# Altium schematic symbol library nnts.SchLib: 62 symbols (part 2 of 3)
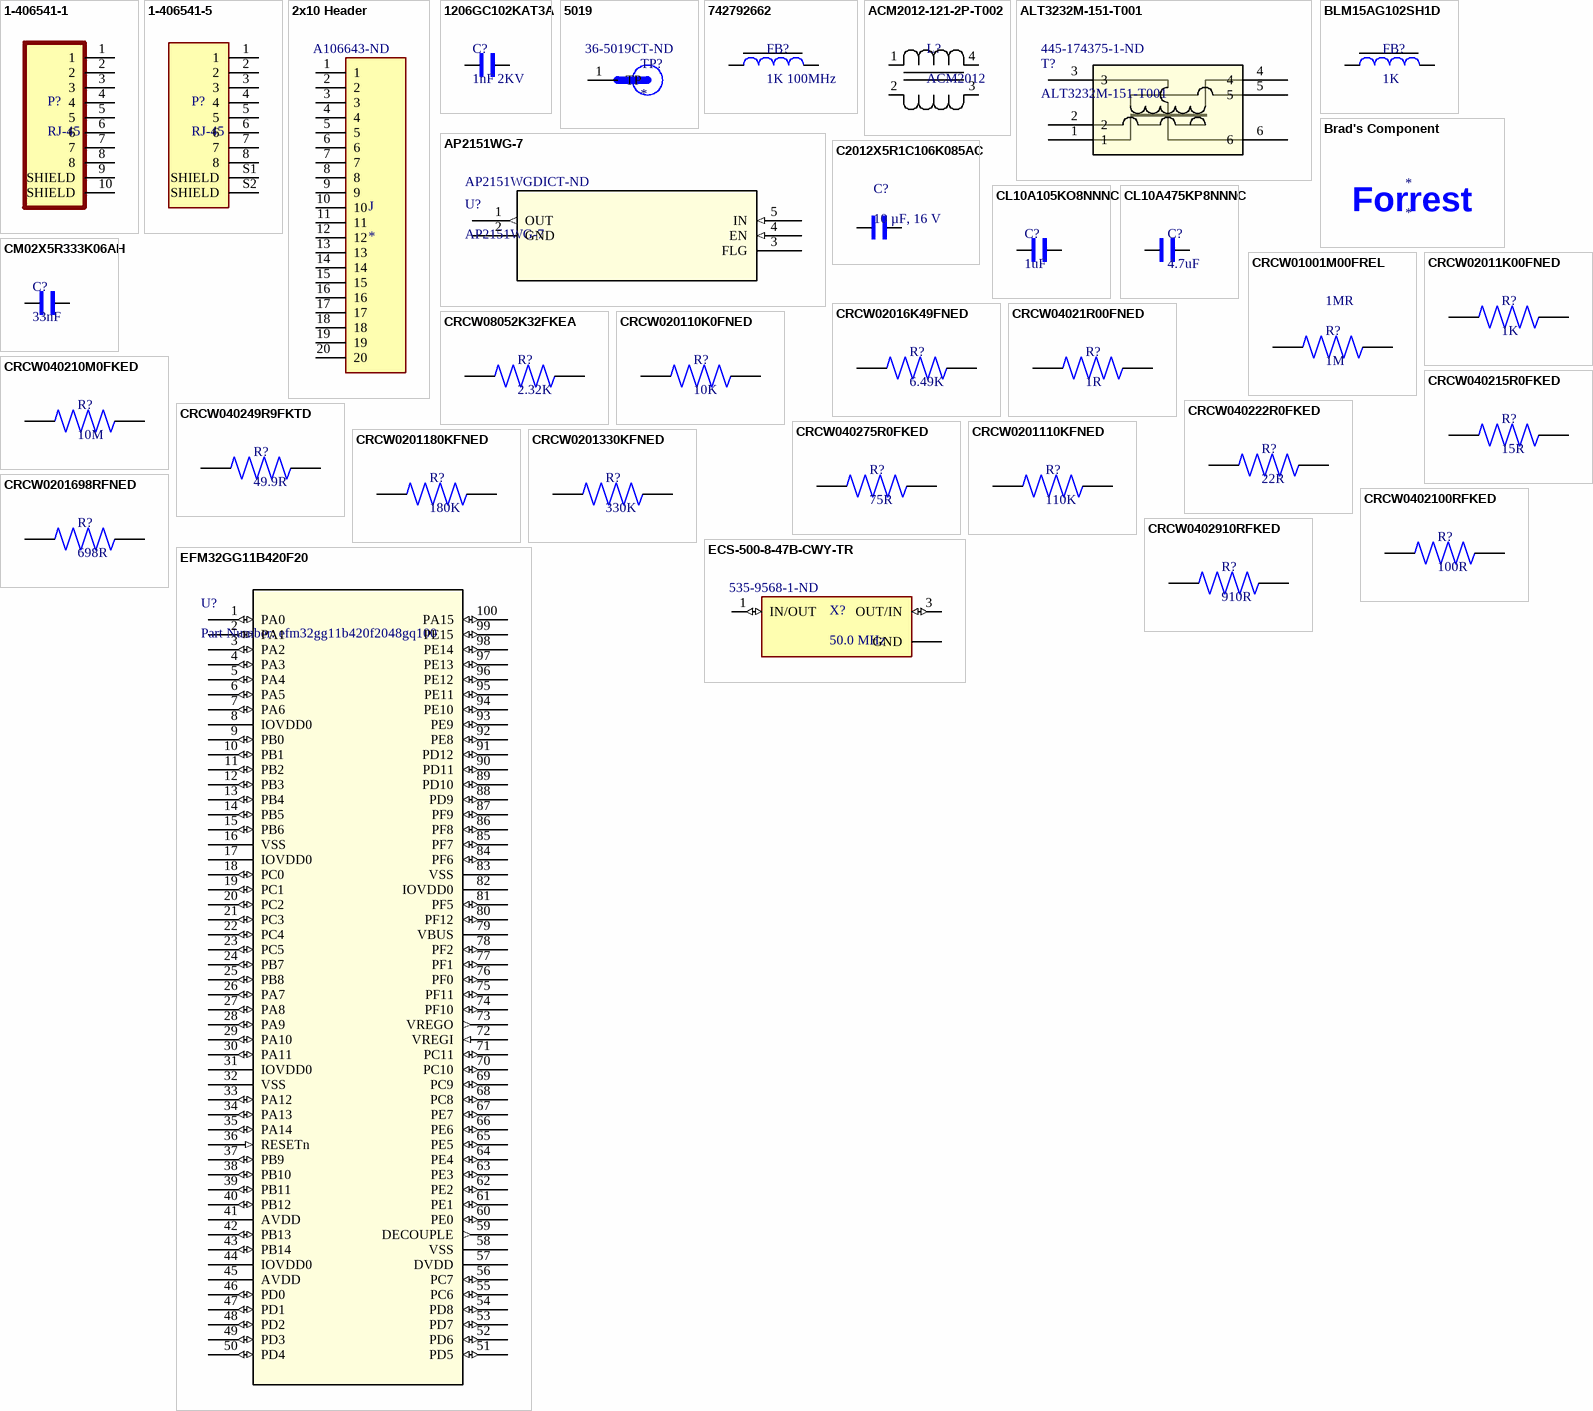
[diagram p3: symbols 1-406541-1 to EFM32GG11B420F20]

## CRCW040275R0FKED
designator R?, comment 75R
VISHAY         CRCW040275R0FKED.            Surface Mount Chip Resistor, Thick Film, AEC-Q200 CRCW Series, 75 ohm, 63 mW,  1%, 50 V; Power Rating: 63mW; Temperature Coefficient: 100ppm/°C; Voltage Rating: 50V; Supplier 1: Digi-Key; Manufacturer: Vishay; Manufacturer Part Number: CRCW040275R0FKED; RoHS: Yes; Category: Chip SMD Resistors; Stock 1: 3085; Pricing 1: 1=0.10000, 10=0.03300, 100=0.01330, 1000=0.00596, 2500=0.00518, 5000=0.00428 (USD); Case/Package: 0402; Contact Plating: Tin; Weight: 2.3E-05oz; Case Code (Imperial): 0402; Case Code (Metric): 1005; Min Operating Temperature: -55°C; Max Operating Temperature: 155°C; Resistance: 75R; Tolerance: 1%; Resistor Type: Thick Film; Termination: SMD/SMT; Packaging: Tape and Reel; Package Quantity: 10; Number of Terminations: 2; Max Power Dissipation: 63mW; Voltage Rating (DC): 50V; Working Voltage: 50V; Features: Automotive AEC-Q200; Length: 1mm; Width: 0.5mm; Height: 0.35mm; Depth: 0.5mm; Radiation Hardening: No; Lead Free: Lead Free; REACH SVHC: Unknown; Military Standard: Not; ComponentLink1URL: https://datasheet.ciiva.com/11811/0900766b80d98824-11811348.pdf?src-supplier=RSComponents; ComponentLink1Description: https://datasheet.ciiva.com/11811/0900766b80d98824-11811348.pdf?src-supplier=RSComponents; ComponentLink2URL: https://datasheet.ciiva.com/2463/dcrcwe3-2463217.pdf?src-supplier=Digi-Key; ComponentLink2Description: https://datasheet.ciiva.com/2463/dcrcwe3-2463217.pdf?src-supplier=Digi-Key; ComponentLink3URL: https://datasheet.ciiva.com/2463/dcrcwe3-2463218.pdf?src-supplier=Digi-Key; ComponentLink3Description: https://datasheet.ciiva.com/2463/dcrcwe3-2463218.pdf?src-supplier=Digi-Key; ComponentLink4URL: https://datasheet.ciiva.com/2463/dcrcwe3-2463219.pdf?src-supplier=Digi-Key; ComponentLink4Description: https://datasheet.ciiva.com/2463/dcrcwe3-2463219.pdf?src-supplier=Digi-Key; ComponentLink5URL: https://datasheet.ciiva.com/16779/70201119-16779527.pdf?src-supplier=Allied+Electronics; ComponentLink5Description: https://datasheet.ciiva.com/16779/70201119-16779527.pdf?src-supplier=Allied+Electronics; ComponentLink6URL: https://datasheet.ciiva.com/16885/dcrcwe3-16885703.pdf?src-supplier=Avnet+Europe; ComponentLink6Description: https://datasheet.ciiva.com/16885/dcrcwe3-16885703.pdf?src-supplier=Avnet+Europe; ComponentLink7URL: https://datasheet.ciiva.com/7673/1697337-7673451.pdf?src-supplier=Element14; ComponentLink7Description: https://datasheet.ciiva.com/7673/1697337-7673451.pdf?src-supplier=Element14; ComponentLink8URL: https://datasheet.ciiva.com/7673/1697337-7673279.pdf?src-supplier=Element14; ComponentLink8Description: https://datasheet.ciiva.com/7673/1697337-7673279.pdf?src-supplier=Element14; Supplier Part Number 1: 541-75.0LCT-ND
footprint R0402 Vishay
pins: 1, 2

## CRCW0201110KFNED
designator R?, comment 110K
RES SMD 110K OHM 1% 1/20W 0201; Manufacturer: Vishay; Manufacturer Part Number: CRCW0201110KFNED; Resistance: 110kR; Power Rating: 50mW; Voltage Rating: 30V; Temperature Coefficient: 200ppm/°C; Supplier 1: Digi-Key; RoHS: Yes; Category: Chip SMD Resistors; Stock 1: 6456; Pricing 1: 1=0.10000, 10=0.05700, 100=0.02300, 1000=0.01034, 2500=0.00897, 5000=0.00741 (USD); Case/Package: 0201; Case Code (Metric): 0603; Case Code (Imperial): 0201; Contact Plating: Tin; Min Operating Temperature: -55°C; Max Operating Temperature: 155°C; Package Quantity: 10000; Tolerance: 1%; Packaging: Tape and Reel; Resistor Type: Thick Film; Number of Terminations: 2; Max Power Dissipation: 50mW; Voltage Rating (DC): 30V; Length: 0.024inch; Width: 0.012inch; Height: 0.011inch; Radiation Hardening: No; REACH SVHC: Unknown; Lead Free: Lead Free; ComponentLink1URL: https://datasheet.ciiva.com/8977/crcw0201e3-8977608.pdf?src-supplier=Avnet; ComponentLink1Description: https://datasheet.ciiva.com/8977/crcw0201e3-8977608.pdf?src-supplier=Avnet; ComponentLink2URL: https://datasheet.ciiva.com/22692/1719906-22692712.pdf?src-supplier=Element14; ComponentLink2Description: https://datasheet.ciiva.com/22692/1719906-22692712.pdf?src-supplier=Element14; ComponentLink3URL: https://datasheet.ciiva.com/2577/crcw0201e3-2577313.pdf?src-supplier=Digi-Key; ComponentLink3Description: https://datasheet.ciiva.com/2577/crcw0201e3-2577313.pdf?src-supplier=Digi-Key; ComponentLink4URL: https://datasheet.ciiva.com/22665/1700795-22665706.pdf?src-supplier=Element14; ComponentLink4Description: https://datasheet.ciiva.com/22665/1700795-22665706.pdf?src-supplier=Element14; Supplier Part Number 1: 541-CRCW0201110KFNEDCT-ND
footprint R0603 Vishay
pins: 1, 2

## CRCW0201180KFNED
designator R?, comment 180K
VISHAY - CRCW0201180KFNED - SMD Chip Resistor, 0201 [0603 Metric], 180 kohm, CRCW e3 Series, 30 V, Thick Film, 50 mW; Resistance: 180kR; Power Rating: 50mW; Tolerance: 1%; Voltage Rating: 30V; Temperature Coefficient: 200ppm/°C; Supplier 1: Digi-Key; Manufacturer: Vishay; Manufacturer Part Number: CRCW0201180KFNED; RoHS: Yes; Category: Chip SMD Resistors; Stock 1: 10120; Pricing 1: 1=0.10000, 10=0.05700, 100=0.02300, 1000=0.01034, 2500=0.00897, 5000=0.00741 (USD); Case/Package: 0201; Case Code (Metric): 0603; Case Code (Imperial): 0201; Contact Plating: Tin; Min Operating Temperature: -55°C; Max Operating Temperature: 155°C; Packaging: Tape and Reel; Resistor Type: Thick Film; Voltage Rating (DC): 30V; Length: 600um; Width: 300um; Height: 230um; Radiation Hardening: No; REACH SVHC: Unknown; Lead Free: Lead Free; ComponentLink1URL: https://datasheet.ciiva.com/22665/1700795-22665798.pdf?src-supplier=Element14; ComponentLink1Description: https://datasheet.ciiva.com/22665/1700795-22665798.pdf?src-supplier=Element14; ComponentLink2URL: https://datasheet.ciiva.com/22692/1719906-22692745.pdf?src-supplier=Element14; ComponentLink2Description: https://datasheet.ciiva.com/22692/1719906-22692745.pdf?src-supplier=Element14; ComponentLink3URL: https://datasheet.ciiva.com/7714/1719906-7714127.pdf?src-supplier=Element14; ComponentLink3Description: https://datasheet.ciiva.com/7714/1719906-7714127.pdf?src-supplier=Element14; Supplier Part Number 1: 541-CRCW0201180KFNEDCT-ND
footprint R0603 Vishay
pins: 1, 2

## CRCW0201330KFNED
designator R?, comment 330K
VISHAY   CRCW0201330KFNED   Surface Mount Chip Resistor, Thick Film, AEC-Q200 CRCW Series, 330 kohm, 50 mW,  1%, 30 V; Resistance: 330kR; Power Rating: 50mW; Voltage Rating: 30V; Temperature Coefficient: 200ppm/°C; Supplier 1: Digi-Key; Manufacturer: Vishay; Manufacturer Part Number: CRCW0201330KFNED; RoHS: Yes; Category: Chip SMD Resistors; Stock 1: 7255; Pricing 1: 1=0.10000, 10=0.05700, 100=0.02300, 1000=0.01034, 2500=0.00897, 5000=0.00741 (USD); Case/Package: 0201; Case Code (Metric): 0603; Case Code (Imperial): 0201; Contact Plating: Tin; Min Operating Temperature: -55°C; Max Operating Temperature: 155°C; Packaging: Tape and Reel; Tolerance: 1%; Package Quantity: 10000; Resistor Type: Thick Film; Number of Terminations: 2; Max Power Dissipation: 50mW; Voltage Rating (DC): 30V; Length: 0.024inch; Width: 0.012inch; Height: 0.011inch; Radiation Hardening: No; REACH SVHC: Unknown; Lead Free: Lead Free; ComponentLink1URL: https://datasheet.ciiva.com/22708/1719906-22708398.pdf?src-supplier=Element14; ComponentLink1Description: https://datasheet.ciiva.com/22708/1719906-22708398.pdf?src-supplier=Element14; Supplier Part Number 1: 541-CRCW0201330KFNEDCT-ND
footprint R0603 Vishay
pins: 1, 2

## CRCW0201698RFNED
designator R?, comment 698R
RES SMD 698 OHM 1% 1/20W 0201; Manufacturer: Vishay; Manufacturer Part Number: CRCW0201698RFNED; Power Rating: 50mW; Voltage Rating: 30V; Temperature Coefficient: 200ppm/°C; Supplier 1: Digi-Key; RoHS: Yes; Category: Chip SMD Resistors; Stock 1: 10000; Pricing 1: 1=0.10000, 10=0.05700, 100=0.02300, 1000=0.01034, 2500=0.00897, 5000=0.00741 (USD); Case/Package: 0201; Case Code (Metric): 0603; Case Code (Imperial): 0201; Contact Plating: Tin; Min Operating Temperature: -55°C; Max Operating Temperature: 155°C; Packaging: Tape and Reel; Resistance: 698R; Tolerance: 1%; Package Quantity: 10000; Resistor Type: Thick Film; Number of Terminations: 2; Max Power Dissipation: 50mW; Voltage Rating (DC): 30V; Length: 0.024inch; Width: 0.012inch; Height: 0.011inch; Radiation Hardening: No; REACH SVHC: Unknown; Lead Free: Lead Free; ComponentLink1URL: https://datasheet.ciiva.com/2577/crcw0201e3-2577171.pdf?src-supplier=Digi-Key; ComponentLink1Description: https://datasheet.ciiva.com/2577/crcw0201e3-2577171.pdf?src-supplier=Digi-Key; ComponentLink2URL: https://datasheet.ciiva.com/8922/crcw0201e3-8922646.pdf?src-supplier=Avnet; ComponentLink2Description: https://datasheet.ciiva.com/8922/crcw0201e3-8922646.pdf?src-supplier=Avnet; ComponentLink3URL: https://datasheet.ciiva.com/7672/1719906-7672440.pdf?src-supplier=Element14; ComponentLink3Description: https://datasheet.ciiva.com/7672/1719906-7672440.pdf?src-supplier=Element14; ComponentLink4URL: https://datasheet.ciiva.com/7672/1719906-7672441.pdf?src-supplier=Element14; ComponentLink4Description: https://datasheet.ciiva.com/7672/1719906-7672441.pdf?src-supplier=Element14; ComponentLink5URL: https://datasheet.ciiva.com/22674/1700795-22674828.pdf?src-supplier=Element14; ComponentLink5Description: https://datasheet.ciiva.com/22674/1700795-22674828.pdf?src-supplier=Element14; Supplier Part Number 1: 541-CRCW0201698RFNEDCT-ND
footprint R0603 Vishay
pins: 1, 2

## CRCW0402100RFKED
designator R?, comment 100R
RES SMD 100 OHM 1% 1/16W 0402; Manufacturer: Vishay Dale; Manufacturer Part Number: CRCW0402100RFKED; Power Rating: 63mW; Temperature Coefficient: 100ppm/°C; Voltage Rating: 50V; Supplier 1: Digi-Key; RoHS: Yes; Category: Chip SMD Resistors; Stock 1: 292788; Pricing 1: 1=0.10000, 10=0.03300, 100=0.01330, 1000=0.00596, 2500=0.00518, 5000=0.00428 (USD); Mount: Surface Mount; Case/Package: 0402; Contact Plating: Tin; Weight: 2.3E-05oz; Case Code (Metric): 1005; Case Code (Imperial): 0402; Min Operating Temperature: -55°C; Max Operating Temperature: 155°C; Resistance: 100R; Tolerance: 1%; Resistor Type: Thick Film; Termination: SMD/SMT; Packaging: Tape and Reel; Package Quantity: 10; Number of Terminations: 2; Max Power Dissipation: 63mW; Voltage Rating (DC): 50V; Working Voltage: 50V; Features: Automotive AEC-Q200; Length: 1mm; Width: 0.02inch; Height: 0.35mm; Depth: 0.5mm; Radiation Hardening: No; Lead Free: Lead Free; REACH SVHC: Unknown; Military Standard: Not; ComponentLink1URL: https://datasheet.ciiva.com/11809/0900766b80d98824-11809081.pdf?src-supplier=RSComponents; ComponentLink1Description: https://datasheet.ciiva.com/11809/0900766b80d98824-11809081.pdf?src-supplier=RSComponents; ComponentLink2URL: https://datasheet.ciiva.com/2463/dcrcwe3-2463094.pdf?src-supplier=Digi-Key; ComponentLink2Description: https://datasheet.ciiva.com/2463/dcrcwe3-2463094.pdf?src-supplier=Digi-Key; ComponentLink3URL: https://datasheet.ciiva.com/16199/dcrcwe3-16199158.pdf?src-supplier=Future+Electronics; ComponentLink3Description: https://datasheet.ciiva.com/16199/dcrcwe3-16199158.pdf?src-supplier=Future+Electronics; ComponentLink4URL: https://datasheet.ciiva.com/2463/dcrcwe3-2463095.pdf?src-supplier=Digi-Key; ComponentLink4Description: https://datasheet.ciiva.com/2463/dcrcwe3-2463095.pdf?src-supplier=Digi-Key; ComponentLink5URL: https://datasheet.ciiva.com/2463/dcrcwe3-2463096.pdf?src-supplier=Digi-Key; ComponentLink5Description: https://datasheet.ciiva.com/2463/dcrcwe3-2463096.pdf?src-supplier=Digi-Key; ComponentLink6URL: https://datasheet.ciiva.com/5552/dcrcwe3-109170-5552168.pdf?src-supplier=Mouser; ComponentLink6Description: https://datasheet.ciiva.com/5552/dcrcwe3-109170-5552168.pdf?src-supplier=Mouser; ComponentLink7URL: https://datasheet.ciiva.com/8083/dcrcwe3-8083977.pdf?src-supplier=Avnet; ComponentLink7Description: https://datasheet.ciiva.com/8083/dcrcwe3-8083977.pdf?src-supplier=Avnet; ComponentLink8URL: https://datasheet.ciiva.com/16722/70201119-16722524.pdf?src-supplier=Allied+Electronics; ComponentLink8Description: https://datasheet.ciiva.com/16722/70201119-16722524.pdf?src-supplier=Allied+Electronics; ComponentLink9URL: https://datasheet.ciiva.com/22673/1697337-22673118.pdf?src-supplier=Element14; ComponentLink9Description: https://datasheet.ciiva.com/22673/1697337-22673118.pdf?src-supplier=Element14; ComponentLink10URL: https://datasheet.ciiva.com/22673/1697337-22673117.pdf?src-supplier=Element14; ComponentLink10Description: https://datasheet.ciiva.com/22673/1697337-22673117.pdf?src-supplier=Element14; ComponentLink11URL: https://datasheet.ciiva.com/3255/dcrcwe3-3255951.pdf?src-supplier=Avnet; ComponentLink11Description: https://datasheet.ciiva.com/3255/dcrcwe3-3255951.pdf?src-supplier=Avnet; Supplier Part Number 1: 541-100LCT-ND
footprint R0402 Vishay
pins: 1, 2

## CRCW0402910RFKED
designator R?, comment 910R
Res Thick Film 0402 910 Ohm 1% 0.063W(1/16W) ±100ppm/C Pad SMD Automotive T/R; Manufacturer: Vishay; Manufacturer Part Number: CRCW0402910RFKED; Temperature Coefficient: 100ppm/°C; Power Rating: 63mW; Voltage Rating: 50V; Supplier 1: Digi-Key; RoHS: Yes; Category: Chip SMD Resistors; Stock 1: 32719; Pricing 1: 1=0.10000, 10=0.03300, 100=0.01330, 1000=0.00596, 2500=0.00518, 5000=0.00428 (USD); Case/Package: 0402; Contact Plating: Tin; Weight: 2.3E-05oz; Case Code (Imperial): 0402; Case Code (Metric): 1005; Min Operating Temperature: -55°C; Max Operating Temperature: 155°C; Resistance: 910R; Tolerance: 1%; Resistor Type: Thick Film; Packaging: Tape and Reel; Package Quantity: 10; Termination: SMD/SMT; Number of Terminations: 2; Max Power Dissipation: 63mW; Features: Automotive AEC-Q200; Voltage Rating (DC): 50V; Length: 1mm; Width: 0.5mm; Height: 0.35mm; Depth: 0.5mm; Radiation Hardening: No; Lead Free: Lead Free; REACH SVHC: Unknown; Military Standard: Not; ComponentLink1URL: https://datasheet.ciiva.com/11818/0900766b80d98824-11818156.pdf?src-supplier=RSComponents; ComponentLink1Description: https://datasheet.ciiva.com/11818/0900766b80d98824-11818156.pdf?src-supplier=RSComponents; ComponentLink2URL: https://datasheet.ciiva.com/5545/dcrcwe3-109170-5545657.pdf?src-supplier=Mouser; ComponentLink2Description: https://datasheet.ciiva.com/5545/dcrcwe3-109170-5545657.pdf?src-supplier=Mouser; ComponentLink3URL: https://datasheet.ciiva.com/22674/1847332-22674841.pdf?src-supplier=Element14; ComponentLink3Description: https://datasheet.ciiva.com/22674/1847332-22674841.pdf?src-supplier=Element14; ComponentLink4URL: https://datasheet.ciiva.com/2463/dcrcwe3-2463999.pdf?src-supplier=Digi-Key; ComponentLink4Description: https://datasheet.ciiva.com/2463/dcrcwe3-2463999.pdf?src-supplier=Digi-Key; ComponentLink5URL: https://datasheet.ciiva.com/7672/1697337-7672517.pdf?src-supplier=Element14; ComponentLink5Description: https://datasheet.ciiva.com/7672/1697337-7672517.pdf?src-supplier=Element14; ComponentLink6URL: https://datasheet.ciiva.com/16778/70201119-16778533.pdf?src-supplier=Allied+Electronics; ComponentLink6Description: https://datasheet.ciiva.com/16778/70201119-16778533.pdf?src-supplier=Allied+Electronics; ComponentLink7URL: https://datasheet.ciiva.com/16426/dcrcwe3-16426299.pdf?src-supplier=Future+Electronics; ComponentLink7Description: https://datasheet.ciiva.com/16426/dcrcwe3-16426299.pdf?src-supplier=Future+Electronics; ComponentLink8URL: https://datasheet.ciiva.com/22706/1697337-22706347.pdf?src-supplier=Element14; ComponentLink8Description: https://datasheet.ciiva.com/22706/1697337-22706347.pdf?src-supplier=Element14; ComponentLink9URL: https://datasheet.ciiva.com/2463/dcrcwe3-2463997.pdf?src-supplier=Digi-Key; ComponentLink9Description: https://datasheet.ciiva.com/2463/dcrcwe3-2463997.pdf?src-supplier=Digi-Key; ComponentLink10URL: https://datasheet.ciiva.com/2463/dcrcwe3-2463998.pdf?src-supplier=Digi-Key; ComponentLink10Description: https://datasheet.ciiva.com/2463/dcrcwe3-2463998.pdf?src-supplier=Digi-Key; ComponentLink11URL: https://datasheet.ciiva.com/7672/1697337-7672518.pdf?src-supplier=Element14; ComponentLink11Description: https://datasheet.ciiva.com/7672/1697337-7672518.pdf?src-supplier=Element14; Supplier Part Number 1: 541-910LCT-ND
footprint R0402 Vishay
pins: 1, 2

## ECS-500-8-47B-CWY-TR
designator X?, comment 50.0 MHz  Supplier Part Number 1: 535-9568-1-ND
CRYSTAL 50.0000MHZ 8PF SMD; MF: ECS Inc.; MP: ECS-500-8-47B-CWY-TR; Price: None; Check_prices: https://www.snapeda.com/parts/ECS-500-8-47B-CWY-TR/ECS%20Inc./view-part/5049033/?ref=eda; SnapEDA_Link: https://www.snapeda.com/parts/ECS-500-8-47B-CWY-TR/ECS%20Inc./view-part/5049033/?ref=snap; Package: None; Purchase-URL: https://pricing.snapeda.com/search/part/ECS-500-8-47B-CWY-TR/?ref=eda; Availability: Warning; Value: *; Supplier 1: Digi-Key
footprint XTAL_ECS-500-8-47B-CWY-TR
pins: 1 IN/OUT (io), 2 GND (power), 3 OUT/IN (io), 4 GND (power)

## EFM32GG11B420F20
designator U?, comment Part Number: efm32gg11b420f2048gq100
No Description Available; Vendor: Silicon Labs; Built_By: EMA_Jessica; Manufacturer_Part_Number: efm32gg11b420f2048gq100; Copyright: Copyright (C) 2018 Accelerated Designs. All rights reserved; RefDes: RefDes; Type: DEV; Value: Value
footprint TQFP100-14X14-0p
pins: 1 PA0 (io), 2 PA1 (io), 3 PA2 (io), 4 PA3 (io), 5 PA4 (io), 6 PA5 (io), 7 PA6 (io), 8 IOVDD0 (power), 9 PB0 (io), 10 PB1 (io), 11 PB2 (io), 12 PB3 (io), 13 PB4 (io), 14 PB5 (io), 15 PB6 (io), 16 VSS (power), 17 IOVDD0 (power), 18 PC0 (io), 19 PC1 (io), 20 PC2 (io), 21 PC3 (io), 22 PC4 (io), 23 PC5 (io), 24 PB7 (io), 25 PB8 (io), 26 PA7 (io), 27 PA8 (io), 28 PA9 (io), 29 PA10 (io), 30 PA11 (io), 31 IOVDD0 (power), 32 VSS (power), 33 PA12 (io), 34 PA13 (io), 35 PA14 (io), 36 RESETn (in), 37 PB9 (io), 38 PB10 (io), 39 PB11 (io), 40 PB12 (io), 41 AVDD (power), 42 PB13 (io), 43 PB14 (io), 44 IOVDD0 (power), 45 AVDD (power), 46 PD0 (io), 47 PD1 (io), 48 PD2 (io), 49 PD3 (io), 50 PD4 (io), 51 PD5 (io), 52 PD6 (io), 53 PD7 (io), 54 PD8 (io), 55 PC6 (io), 56 PC7 (io), 57 DVDD (power), 58 VSS (power), 59 DECOUPLE (out), 60 PE0 (io), 61 PE1 (io), 62 PE2 (io), 63 PE3 (io), 64 PE4 (io), 65 PE5 (io), 66 PE6 (io), 67 PE7 (io), 68 PC8 (io), 69 PC9 (io), 70 PC10 (io), 71 PC11 (io), 72 VREGI (in), 73 VREGO (out), 74 PF10 (io), 75 PF11 (io), 76 PF0 (io), 77 PF1 (io), 78 PF2 (io), 79 VBUS (power), 80 PF12 (io), 81 PF5 (io), 82 IOVDD0 (power), 83 VSS (power), 84 PF6 (io), 85 PF7 (io), 86 PF8 (io), 87 PF9 (io), 88 PD9 (io), 89 PD10 (io), 90 PD11 (io), 91 PD12 (io), 92 PE8 (io), 93 PE9 (io), 94 PE10 (io), 95 PE11 (io), 96 PE12 (io), 97 PE13 (io), 98 PE14 (io), 99 PE15 (io), 100 PA15 (io)

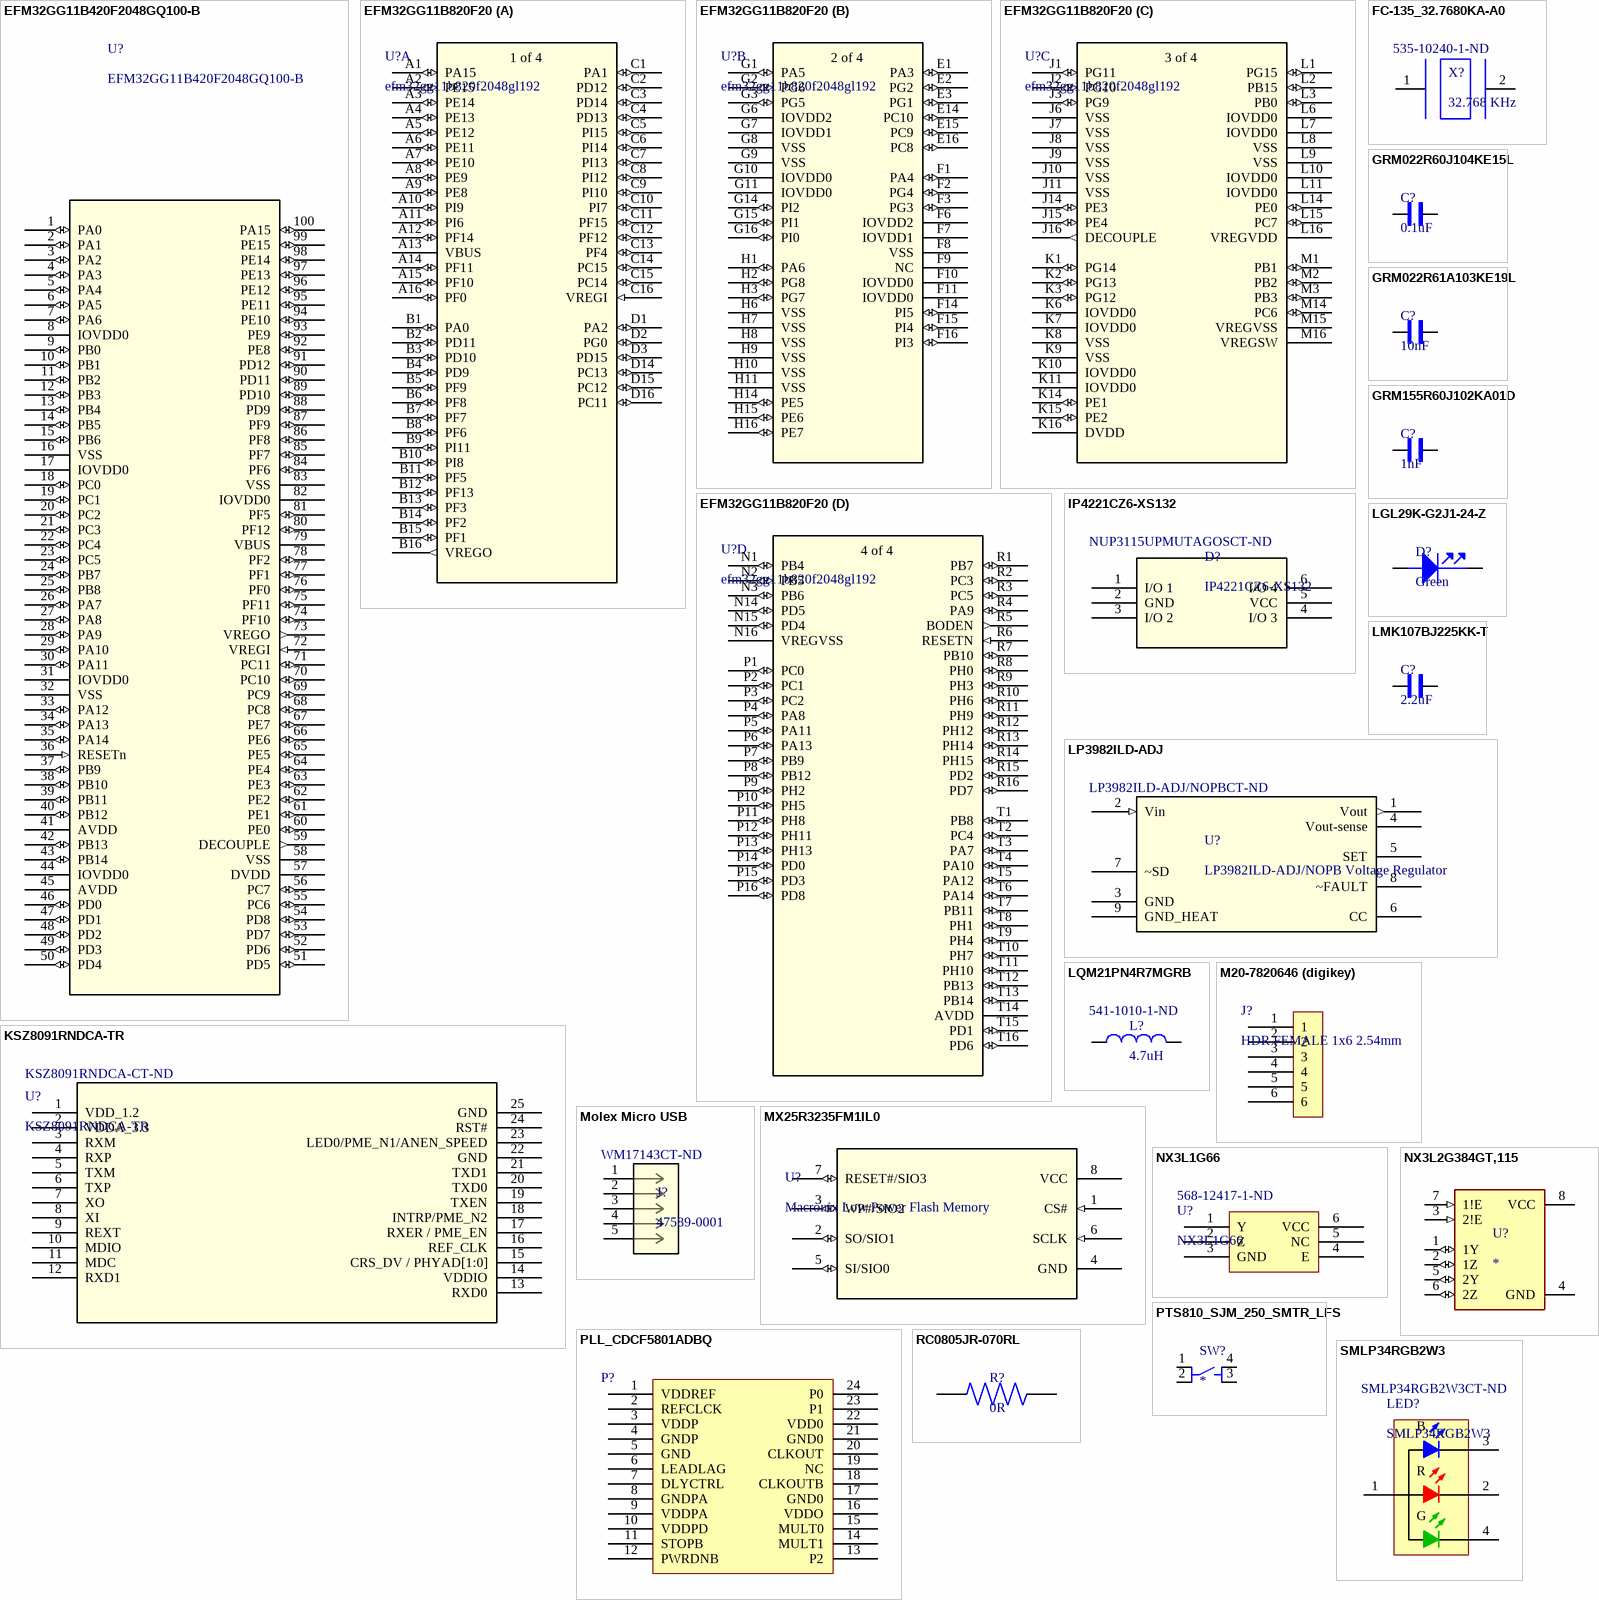
[diagram p1: symbols EFM32GG11B420F2048GQ100-B to SMLP34RGB2W3]

## EFM32GG11B420F2048GQ100-B
designator U?
MCU 32-bit ARM Cortex M4 RISC 2MB Flash 3.3V 100-Pin TQFP Tray; Manufacturer: Silicon Labs; Supplier 1: Mouser; Manufacturer Part Number: EFM32GG11B420F2048GQ100-B; RoHS: No; Stock 1: 140; Pricing 1: 1=9.00000, 10=8.84000, 25=8.69000, 50=8.52000, 100=8.35000, 250=8.34000, 500=8.32000, 1000=8.30000 (USD); Supplier Part Number 1: 634-B420F2048GQ100-B
footprint TQFP100-14X14-0p
pins: 1 PA0 (io), 2 PA1 (io), 3 PA2 (io), 4 PA3 (io), 5 PA4 (io), 6 PA5 (io), 7 PA6 (io), 8 IOVDD0 (power), 9 PB0 (io), 10 PB1 (io), 11 PB2 (io), 12 PB3 (io), 13 PB4 (io), 14 PB5 (io), 15 PB6 (io), 16 VSS (power), 17 IOVDD0 (power), 18 PC0 (io), 19 PC1 (io), 20 PC2 (io), 21 PC3 (io), 22 PC4 (io), 23 PC5 (io), 24 PB7 (io), 25 PB8 (io), 26 PA7 (io), 27 PA8 (io), 28 PA9 (io), 29 PA10 (io), 30 PA11 (io), 31 IOVDD0 (power), 32 VSS (power), 33 PA12 (io), 34 PA13 (io), 35 PA14 (io), 36 RESETn (in), 37 PB9 (io), 38 PB10 (io), 39 PB11 (io), 40 PB12 (io), 41 AVDD (power), 42 PB13 (io), 43 PB14 (io), 44 IOVDD0 (power), 45 AVDD (power), 46 PD0 (io), 47 PD1 (io), 48 PD2 (io), 49 PD3 (io), 50 PD4 (io), 51 PD5 (io), 52 PD6 (io), 53 PD7 (io), 54 PD8 (io), 55 PC6 (io), 56 PC7 (io), 57 DVDD (power), 58 VSS (power), 59 DECOUPLE (out), 60 PE0 (io), 61 PE1 (io), 62 PE2 (io), 63 PE3 (io), 64 PE4 (io), 65 PE5 (io), 66 PE6 (io), 67 PE7 (io), 68 PC8 (io), 69 PC9 (io), 70 PC10 (io), 71 PC11 (io), 72 VREGI (in), 73 VREGO (out), 74 PF10 (io), 75 PF11 (io), 76 PF0 (io), 77 PF1 (io), 78 PF2 (io), 79 VBUS (power), 80 PF12 (io), 81 PF5 (io), 82 IOVDD0 (power), 83 VSS (power), 84 PF6 (io), 85 PF7 (io), 86 PF8 (io), 87 PF9 (io), 88 PD9 (io), 89 PD10 (io), 90 PD11 (io), 91 PD12 (io), 92 PE8 (io), 93 PE9 (io), 94 PE10 (io), 95 PE11 (io), 96 PE12 (io), 97 PE13 (io), 98 PE14 (io), 99 PE15 (io), 100 PA15 (io)

## EFM32GG11B820F20
designator U?, comment efm32gg11b820f2048gl192
No Description Available; Vendor: Silicon Labs; Copyright: Copyright (C) 2016 Accelerated Designs. All rights reserved; Manufacturer_Part_Number: efm32gg11b820f2048gl192; RefDes: RefDes; Type: DEV; Value: Value
footprint MCU_GG11
part A pins: A1 PA15 (io), A2 PE15 (io), A3 PE14 (io), A4 PE13 (io), A5 PE12 (io), A6 PE11 (io), A7 PE10 (io), A8 PE9 (io), A9 PE8 (io), A10 PI9 (io), A11 PI6 (io), A12 PF14 (io), A13 VBUS (power), A14 PF11 (io), A15 PF10 (io), A16 PF0 (io), B1 PA0 (io), B2 PD11 (io), B3 PD10 (io), B4 PD9 (io), B5 PF9 (io), B6 PF8 (io), B7 PF7 (io), B8 PF6 (io), B9 PI11 (io), B10 PI8 (io), B11 PF5 (io), B12 PF13 (io), B13 PF3 (io), B14 PF2 (io), B15 PF1 (io), B16 VREGO (out), C1 PA1 (io), C2 PD12 (io), C3 PD14 (io), C4 PD13 (io), C5 PI15 (io), C6 PI14 (io), C7 PI13 (io), C8 PI12 (io), C9 PI10 (io), C10 PI7 (io), C11 PF15 (io), C12 PF12 (io), C13 PF4 (io), C14 PC15 (io), C15 PC14 (io), C16 VREGI (in), D1 PA2 (io), D2 PG0 (io), D3 PD15 (io), D14 PC13 (io), D15 PC12 (io), D16 PC11 (io)
part B pins: E1 PA3 (io), E2 PG2 (io), E3 PG1 (io), E14 PC10 (io), E15 PC9 (io), E16 PC8 (io), F1 PA4 (io), F2 PG4 (io), F3 PG3 (io), F6 IOVDD2 (power), F7 IOVDD1 (power), F8 VSS (power), F9 NC, F10 IOVDD0 (power), F11 IOVDD0 (power), F14 PI5 (io), F15 PI4 (io), F16 PI3 (io), G1 PA5 (io), G2 PG6 (io), G3 PG5 (io), G6 IOVDD2 (power), G7 IOVDD1 (power), G8 VSS (power), G9 VSS (power), G10 IOVDD0 (power), G11 IOVDD0 (power), G14 PI2 (io), G15 PI1 (io), G16 PI0 (io), H1 PA6 (io), H2 PG8 (io), H3 PG7 (io), H6 VSS (power), H7 VSS (power), H8 VSS (power), H9 VSS (power), H10 VSS (power), H11 VSS (power), H14 PE5 (io), H15 PE6 (io), H16 PE7 (io)
part C pins: J1 PG11 (io), J2 PG10 (io), J3 PG9 (io), J6 VSS (power), J7 VSS (power), J8 VSS (power), J9 VSS (power), J10 VSS (power), J11 VSS (power), J14 PE3 (io), J15 PE4 (io), J16 DECOUPLE (out), K1 PG14 (io), K2 PG13 (io), K3 PG12 (io), K6 IOVDD0 (power), K7 IOVDD0 (power), K8 VSS (power), K9 VSS (power), K10 IOVDD0 (power), K11 IOVDD0 (power), K14 PE1 (io), K15 PE2 (io), K16 DVDD (power), L1 PG15 (io), L2 PB15 (io), L3 PB0 (io), L6 IOVDD0 (power), L7 IOVDD0 (power), L8 VSS (power), L9 VSS (power), L10 IOVDD0 (power), L11 IOVDD0 (power), L14 PE0 (io), L15 PC7 (io), L16 VREGVDD (power), M1 PB1 (io), M2 PB2 (io), M3 PB3 (io), M14 PC6 (io), M15 VREGVSS (power), M16 VREGSW (power)
part D pins: N1 PB4 (io), N2 PB5 (io), N3 PB6 (io), N14 PD5 (io), N15 PD4 (io), N16 VREGVSS (power), P1 PC0 (io), P2 PC1 (io), P3 PC2 (io), P4 PA8 (io), P5 PA11 (io), P6 PA13 (io), P7 PB9 (io), P8 PB12 (io), P9 PH2 (io), P10 PH5 (io), P11 PH8 (io), P12 PH11 (io), P13 PH13 (io), P14 PD0 (io), P15 PD3 (io), P16 PD8 (io), R1 PB7 (io), R2 PC3 (io), R3 PC5 (io), R4 PA9 (io), R5 BODEN (out), R6 RESETN (in), R7 PB10 (io), R8 PH0 (io), R9 PH3 (io), R10 PH6 (io), R11 PH9 (io), R12 PH12 (io), R13 PH14 (io), R14 PH15 (io), R15 PD2 (io), R16 PD7 (io), T1 PB8 (io), T2 PC4 (io), T3 PA7 (io), T4 PA10 (io), T5 PA12 (io), T6 PA14 (io), T7 PB11 (io), T8 PH1 (io), T9 PH4 (io), T10 PH7 (io), T11 PH10 (io), T12 PB13 (io), T13 PB14 (io), T14 AVDD (power), T15 PD1 (io), T16 PD6 (io)
part A text: 1 of 4
part B text: 2 of 4
part C text: 3 of 4
part D text: 4 of 4

## FC-135_32.7680KA-A0
designator X?, comment 32.768 KHz  Supplier Part Number 1: 535-10240-1-ND
32.768kHz Â±20ppm Crystal 12.5pF 70 kOhms 2-SMD, No Lead; MP: FC-135 32.7680KA-A0; MF: EPSON; Package: SMD-2 Epson; SnapEDA_Link: https://www.snapeda.com/parts/FC-135%2032.7680KA-A0/EPSON/view-part/51409/?ref=snap; Availability: Unavailable; Value: *; Price: None; Supplier 1: Digi-Key
footprint XTAL_FC-135_32.7680KA-A0
pins: 1, 2

## GRM022R60J104KE15L
designator C?, comment 0.1uF
CAP CER 0.1UF 6.3V X5R 01005; Manufacturer: Murata; Manufacturer Part Number: GRM022R60J104KE15L; Capacitance: 100nF; Tolerance: 10%; Supplier 1: Digi-Key; RoHS: No; Category: Ceramic Capacitors; Stock 1: 633064; Pricing 1: 1=0.13000, 10=0.09000, 50=0.05080, 100=0.04210, 500=0.02952, 1000=0.02444, 2500=0.02275, 5000=0.02081 (USD); Mount: Surface Mount; Case Code (Imperial): 1005; Case Code (Metric): 0402; Min Operating Temperature: -55°C; Max Operating Temperature: 85°C; Packaging: Cut Tape; Voltage Rating: 6.3V; ComponentLink1URL: http://search.murata.co.jp/Ceramy/image/img/A01X/G101/ENG/GRM022R60J104KE15-01.pdf?src-supplier=Digi-Key; ComponentLink1Description: http://search.murata.co.jp/Ceramy/image/img/A01X/G101/ENG/GRM022R60J104KE15-01.pdf?src-supplier=Digi-Key; Supplier Part Number 1: 490-16598-1-ND
footprint C0402
pins: 1, 2

## GRM022R61A103KE19L
designator C?, comment 10nF
CAP CER 10000PF 10V X5R 01005; Manufacturer: Murata; Manufacturer Part Number: GRM022R61A103KE19L; Tolerance: 10%; Supplier 1: Digi-Key; RoHS: Yes; Category: Ceramic Capacitors; Stock 1: 601814; Pricing 1: 1=0.10000, 10=0.05200, 50=0.02840, 100=0.02320, 500=0.01656, 1000=0.01301, 2500=0.01182, 5000=0.01088 (USD); Mount: Surface Mount; Case/Package: 0402; Case Code (Metric): 0402; Case Code (Imperial): 1005; Min Operating Temperature: -55°C; Max Operating Temperature: 85°C; Voltage Rating: 10V; Voltage Rating (DC): 10V; Dielectric: X5R; Capacitance: 10nF; Packaging: Tape and Reel; Length: 0.016inch; Width: 0.008inch; Height: 0.2mm; Thickness: 0.009inch; Depth: 0.2mm; Radiation Hardening: No; ComponentLink1URL: https://datasheet.ciiva.com/11619/product-11619917.pdf?src-supplier=Avnet; ComponentLink1Description: https://datasheet.ciiva.com/11619/product-11619917.pdf?src-supplier=Avnet; Supplier Part Number 1: 490-13319-1-ND
footprint C0402
pins: 1, 2

## GRM155R60J102KA01D
designator C?, comment 1nF
0402 1 nF 6.3 V ±10% Tolerance X5R SMT Multilayer Ceramic Capacitor; Manufacturer: Murata; Manufacturer Part Number: GRM155R60J102KA01D; Voltage Rating: 6.3V; Supplier 1: Digi-Key; RoHS: Yes; Category: Ceramic Capacitors; Stock 1: 20431; Pricing 1: 1=0.10000, 10=0.02800, 50=0.01520, 100=0.01240, 500=0.00886, 1000=0.00696, 2500=0.00632, 5000=0.00582 (USD); Mount: Surface Mount; Case/Package: 0402; Case Code (Metric): 1005; Case Code (Imperial): 0402; Min Operating Temperature: -55°C; Max Operating Temperature: 85°C; Package Quantity: 10000; Capacitance: 1nF; Tolerance: 10%; Packaging: Tape and Reel; Voltage Rating (DC): 6.3V; Dielectric: X5R; Termination: SMD/SMT; Voltage: 6.3V; Length: 1mm; Width: 0.02inch; Height: 0.5mm; Thickness: 0.022inch; Depth: 0.5mm; Radiation Hardening: No; Lead Free: Lead Free; ComponentLink1URL: https://datasheet.ciiva.com/6263/product-6263681.pdf?src-supplier=Digi-Key; ComponentLink1Description: https://datasheet.ciiva.com/6263/product-6263681.pdf?src-supplier=Digi-Key; ComponentLink2URL: https://datasheet.ciiva.com/6263/partnumbering-e-01-6263685.pdf?src-supplier=Digi-Key; ComponentLink2Description: https://datasheet.ciiva.com/6263/partnumbering-e-01-6263685.pdf?src-supplier=Digi-Key; ComponentLink3URL: https://datasheet.ciiva.com/6263/partnumbering-e-01-6263677.pdf?src-supplier=Digi-Key; ComponentLink3Description: https://datasheet.ciiva.com/6263/partnumbering-e-01-6263677.pdf?src-supplier=Digi-Key; Supplier Part Number 1: 490-6285-1-ND
footprint C0402
pins: 1, 2

## IP4221CZ6-XS132
designator D?  Supplier Part Number 1: NUP3115UPMUTAGOSCT-ND
TVS DIODE 5.5VWM SOT891; Manufacturer: NXP Semiconductors; Number of Bidirectional Channels: 4; Reverse Standoff Voltage: 5.5V; Min Breakdown Voltage: 6V; Power Line Protection: Yes; Breakdown Voltage: 9V; Leakage Current: 100nA; Direction: Unidirectional; Capacitance: 1.2pF; Manufacturer Part Number: IP4221CZ6-XS132; RoHS: Yes; Category: ESD and Circuit Protection ICs; Mount: Surface Mount; Case/Package: DFN; Number of Pins: 6; Min Operating Temperature: -40°C; Max Operating Temperature: 85°C; Number of Channels: 4; Termination: SMD/SMT; Packaging: Tape and Reel; Package Quantity: 1; Length: 1.05mm; Depth: 1.05mm; Radiation Hardening: No; Lead Free: Lead Free; ComponentLink1URL: https://datasheet.ciiva.com/337/ip4221cz6-xs-337188.pdf?src-supplier=Digi-Key; ComponentLink1Description: https://datasheet.ciiva.com/337/ip4221cz6-xs-337188.pdf?src-supplier=Digi-Key; ComponentLink2URL: https://datasheet.ciiva.com/337/ip4221cz6-xs-337189.pdf?src-supplier=Digi-Key; ComponentLink2Description: https://datasheet.ciiva.com/337/ip4221cz6-xs-337189.pdf?src-supplier=Digi-Key; ComponentLink3URL: https://datasheet.ciiva.com/337/ip4221cz6-xs-337190.pdf?src-supplier=Digi-Key; ComponentLink3Description: https://datasheet.ciiva.com/337/ip4221cz6-xs-337190.pdf?src-supplier=Digi-Key; Supplier 1: Digi-Key
footprint SOT886_NEX-M
pins: 1 I/O 1, 2 GND, 3 I/O 2, 4 I/O 3, 5 VCC, 6 I/O 4

## KSZ8091RNDCA-TR
designator U?  Supplier Part Number 1: KSZ8091RNDCA-CT-ND
10/100 Base-Tx Physical Layer Transceiver, Eee, Wol / 24 Vqfn 4X4X0.9Mm T/r; Vendor: Microchip; Built_By: EMA_Cory; SourceLibrary: Microchip_2020-10-12; Datasheet: https://ww1.microchip.com/downloads/en/DeviceDoc/00002298A.pdf; Manufacturer_Part_Number: KSZ8091RNDCA-TR; Copyright: Copyright (C) 2018 Accelerated Designs. All rights reserved; RefDes: RefDes; Type: DEV; Supplier 1: Digi-Key
footprint QFN50P400X400X90-25N
pins: 1 VDD_1.2 (power), 2 VDDA_3.3 (power), 3 RXM, 4 RXP, 5 TXM, 6 TXP, 7 XO, 8 XI, 9 REXT, 10 MDIO, 11 MDC, 12 RXD1, 13 RXD0, 14 VDDIO (power), 15 CRS_DV / PHYAD[1:0], 16 REF_CLK, 17 RXER / PME_EN, 18 INTRP/PME_N2, 19 TXEN, 20 TXD0, 21 TXD1, 22 GND, 23 LED0/PME_N1/ANEN_SPEED, 24 RST#, 25 GND

## LGL29K-G2J1-24-Z
designator D?, comment Green
LED Uni-Color Green 572nm 2-Pin Chip 0603(1608Metric) T/R; Manufacturer: Osram Opto; Manufacturer Part Number: LGL29K-G2J1-24-Z; Lens Color: White; Forward Current: 20mA; Forward Voltage: 2.2V; Luminous Intensity: 5.6mcd; Viewing Angle: 160°; Number of LEDs: 1; Lens Style: Flat,Diffused,Colorless,Rectangular; Lens Transparency: Diffused; Reverse Voltage: 12V; Test Current: 2mA; Dominant Wavelength: 570nm; Luminous Flux: 0.012lm; Lens Size: 0.8mm; Supplier 1: Digi-Key; RoHS: Yes; Category: Uncategorized; Stock 1: 112400; Pricing 1: 1=0.42000, 10=0.30400, 100=0.19830, 500=0.14250, 1000=0.11153, 2500=0.10224 (USD); Mount: Surface Mount; Case/Package: 0603; Number of Pins: 2; Case Code (Imperial): 0603; Case Code (Metric): 1608; Color: Green; Min Operating Temperature: -40°C; Max Operating Temperature: 100°C; Illumination Color: Green; Packaging: Tape and Reel; Package Quantity: 5000; Number of Elements: 1; Length: 1.3mm; Height: 0.65mm; Width: 0.8mm; Depth: 0.8mm; Radiation Hardening: No; ComponentLink1URL: https://datasheet.ciiva.com/4689/g-l29k-39844-4689584.pdf?src-supplier=Mouser; ComponentLink1Description: https://datasheet.ciiva.com/4689/g-l29k-39844-4689584.pdf?src-supplier=Mouser; ComponentLink2URL: https://datasheet.ciiva.com/15198/getdatasheetpartid-571127-15198411.pdf?src-supplier=Verical; ComponentLink2Description: https://datasheet.ciiva.com/15198/getdatasheetpartid-571127-15198411.pdf?src-supplier=Verical; ComponentLink3URL: https://datasheet.ciiva.com/2112/00077107-0-2112886.pdf?src-supplier=Digi-Key; ComponentLink3Description: https://datasheet.ciiva.com/2112/00077107-0-2112886.pdf?src-supplier=Digi-Key; ComponentLink4URL: https://datasheet.ciiva.com/2112/00077107-0-2112887.pdf?src-supplier=Digi-Key; ComponentLink4Description: https://datasheet.ciiva.com/2112/00077107-0-2112887.pdf?src-supplier=Digi-Key; ComponentLink5URL: https://datasheet.ciiva.com/2112/00077107-0-2112888.pdf?src-supplier=Digi-Key; ComponentLink5Description: https://datasheet.ciiva.com/2112/00077107-0-2112888.pdf?src-supplier=Digi-Key; Supplier Part Number 1: 475-2709-1-ND
footprint LED_0603
pins: 1 Anode, 2 Cathode

## LMK107BJ225KK-T
designator C?, comment 2.2uF
Cap Ceramic 2.2uF 10V X5R 10% Pad SMD 0603 85C T/R; Manufacturer: Taiyo Yuden; Manufacturer Part Number: LMK107BJ225KK-T; Supplier 1: Digi-Key; RoHS: No; Category: Ceramic Capacitors; Stock 1: 4228; Pricing 1: 1=0.17000, 10=0.11900, 50=0.06760, 100=0.05600, 500=0.03926, 1000=0.03250 (USD); ComponentLink1URL: http://www.farnell.com/datasheets/2801359.pdf?src-supplier=Newark; ComponentLink1Description: http://www.farnell.com/datasheets/2801359.pdf?src-supplier=Newark; Supplier Part Number 1: 587-6290-1-ND
footprint C0603
pins: 1, 2

## LP3982ILD-ADJ
designator U?, comment LP3982ILD-ADJ/NOPB Voltage Regulator  Supplier Part Number 1: LP3982ILD-ADJ/NOPBCT-ND
https://www.ti.com/product/LP3982?HQS=TI-null-null-octopart-df-pf-null-wwe; Vendor: Texas Instruments; Built_By: EMA_UL_Team; SourceLibrary: TI_2019-03-28; Manufacturer_Part_Number: LP3982ILD-ADJ/NOPB; Copyright: Copyright (C) 2018 Accelerated Designs. All rights reserved; RefDes: RefDes; Type: DEV; Supplier 1: Digi-Key
footprint LP3982ILD-ADJ (300 mA voltage regulator)
pins: 1 Vout (out), 2 Vin (in), 3 GND, 4 Vout-sense, 5 SET, 6 CC, 7 ~SD, 8 ~FAULT, 9 GND_HEAT

## LQM21PN4R7MGRB
designator L?, comment 4.7uH  Supplier Part Number 1: 541-1010-1-ND
Inductor with Inductance: 4.7uH Tol. +/-20%, Package: 0805 (2012); MP: LQM21PN4R7MGRB; MF: Murata; Availability: Bad; SnapEDA_Link: https://www.snapeda.com/parts/LQM21PN4R7MGRB/Murata/view-part/4470527/?ref=snap; Value: *; Price: None; Package: 2012 Murata; Check_prices: https://www.snapeda.com/parts/LQM21PN4R7MGRB/Murata/view-part/4470527/?ref=eda; Supplier 1: Digi-Key
footprint L0805
pins: 1, 2

## M20-7820646 (digikey)
designator J?, comment HDR FEMALE 1x6 2.54mm
06-WAY SIL VERT SOCKET L/FREE; Manufacturer: Harwin; Manufacturer Part Number: M20-7820646; Number of Contacts: 6; Connector Type: Receptacle,Socket; Max Current Rating: 3A; Contact Resistance: 20mR; Supplier 1: Digi-Key; RoHS: Yes; Category: Headers and Wire Housings; Stock 1: 1249; Pricing 1: 1=0.96000, 10=0.84200, 100=0.72600, 500=0.59400, 1000=0.52800, 5000=0.46200, 10000=0.43890 (USD); Mount: Through Hole; Case/Package: SIL; Housing Material: Nylon; Color: Black; Contact Plating: Tin; Contact Material: Bronze; Housing Color: Black; Min Operating Temperature: -40°C; Max Operating Temperature: 105°C; Termination: Solder; Number of Rows: 1; Gender: Female; Number of Positions: 6; Packaging: Rail/Tube; Orientation: Straight; Contact Gender: Female; Package Quantity: 38; Length: 15.64mm; Pitch: 2.54mm; Depth: 2.5mm; Radiation Hardening: No; ComponentLink1URL: http://components.arrow.com/part/dataview/0323_00725884?src-supplier=Arrow+Europe; ComponentLink1Description: http://components.arrow.com/part/dataview/0323_00725884?src-supplier=Arrow+Europe; ComponentLink2URL: http://www.harwin.com/include/downloads/pdfs/2010PAGE120.PDF?src-supplier=Avnet; ComponentLink2Description: http://www.harwin.com/include/downloads/pdfs/2010PAGE120.PDF?src-supplier=Avnet; ComponentLink3URL: https://cdn.harwin.com/pdfs/M20-782.pdf?src-supplier=Digi-Key; ComponentLink3Description: https://cdn.harwin.com/pdfs/M20-782.pdf?src-supplier=Digi-Key; ComponentLink4URL: https://cdn.harwin.com/pdfs/Harwin_PC_Connectors_M20.pdf?src-supplier=Avnet+Europe; ComponentLink4Description: https://cdn.harwin.com/pdfs/Harwin_PC_Connectors_M20.pdf?src-supplier=Avnet+Europe; ComponentLink5URL: https://cdn.harwin.com/pdfs/Harwin_PC_Connectors_M20.pdf?src-supplier=Mouser; ComponentLink5Description: https://cdn.harwin.com/pdfs/Harwin_PC_Connectors_M20.pdf?src-supplier=Mouser; ComponentLink6URL: https://cdn.harwin.com/pdfs/Harwin_PC_Connectors_M20.pdf?src-supplier=RSComponents; ComponentLink6Description: https://cdn.harwin.com/pdfs/Harwin_PC_Connectors_M20.pdf?src-supplier=RSComponents; ComponentLink7URL: https://cdn.harwin.com/pdfs/Harwin_PC_Connectors_M20.pdf?src-supplier=TTI; ComponentLink7Description: https://cdn.harwin.com/pdfs/Harwin_PC_Connectors_M20.pdf?src-supplier=TTI; Supplier Part Number 1: 952-1809-ND
footprint Hdr_Female_1x6_2.54mm
pins: 1, 2, 3, 4, 5, 6

## Molex Micro USB
designator J?, comment 47589-0001  Supplier Part Number 1: WM17143CT-ND
https://www.molex.com/molex/products/part-detail/io_connectors/0475890001; Vendor: Molex Connector Corporation; Built_By: EMA_Don; SourceLibrary: Molex_2018-12-15; Copyright: Copyright (C) 2016 Accelerated Designs. All rights reserved; Manufacturer_Part_Number: 47589-0001; RefDes: RefDes; Type: DEV; Supplier 1: Digi-Key
footprint Molex Micro USB
pins: 1, 2, 3, 4, 5

## MX25R3235FM1IL0
designator U?, comment Macronix Low Power Flash Memory
https://www.datasheets.com/en/datasheet/mx25r3235fbdil0-macronix-international-82184503; Manufacturer_Part_Number: MX25R3235FM1IL0; Built_By: EMA_Cory; SourceLibrary: Macronix_2019-12-02; Vendor: Macronix; Copyright: Copyright (C) 2018 Accelerated Designs. All rights reserved; RefDes: RefDes; Type: DEV
footprint SOP_8L_150_MAC
pins: 1 CS# (in), 2 SO/SIO1 (io), 3 WP#/SIO2 (io), 4 GND, 5 SI/SIO0 (io), 6 SCLK (in), 7 RESET#/SIO3 (io), 8 VCC (power)

## NX3L1G66
designator U?  Supplier Part Number 1: 568-12417-1-ND
Single pole Single Throw switch; Supplier 1: Digi-Key
footprint PSON50P145X100X50-6N
pins: 1 Y, 2 Z, 3 GND, 4 E, 5 NC, 6 VCC

## NX3L2G384GT,115
designator U?
2 Circuit IC Switch 1:1 750mOhm 8-XSON, SOT833-1 (1.95x1); MF: NXP USA; MP: NX3L2G384GT,115; Value: *; Price: None; Package: XFDFN-8 NXP Semiconductors; Availability: Good; Purchase-URL: https://pricing.snapeda.com/search/part/NX3L2G384GT,115/?ref=eda; SnapEDA_Link: https://www.snapeda.com/parts/NX3L2G384GT,115/NXP%20USA%20Inc./view-part/485251/?ref=snap; Check_prices: https://www.snapeda.com/parts/NX3L2G384GT,115/NXP%20USA%20Inc./view-part/485251/?ref=eda
footprint PSON50P100X195X50-8N
pins: 1 1Y (io), 2 1Z (io), 3 2!E (in), 4 GND, 5 2Y (io), 6 2Z (io), 7 1!E (in), 8 VCC (power)

## PLL_CDCF5801ADBQ
designator P?, comment Texas Instruments PLL  (value not drawn)
IC PLL CLOCK MULTIPLIER 24-QSOP; Datasheet: https://www.ti.com/lit/ds/symlink/cdcf5801a.pdf?HQS=dis-dk-null-digikeymode-dsf-pf-null-wwe&ts=1612548865058; Digi-Key: https://www.digikey.com/en/products/detail/texas-instruments/CDCF5801ADBQG4/1508166
footprint SOP64P600X175-24N (SOP, 24-Leads, Body 8.65x3.90mm, Pitch 0.64mm, IPC Medium Density)
pins: 1 VDDREF, 2 REFCLCK, 3 VDDP, 4 GNDP, 5 GND, 6 LEADLAG, 7 DLYCTRL, 8 GNDPA, 9 VDDPA, 10 VDDPD, 11 STOPB, 12 PWRDNB, 13 P2, 14 MULT1, 15 MULT0, 16 VDDO, 17 GND0, 18 CLKOUTB, 19 NC, 20 CLKOUT, 21 GND0, 22 VDD0, 23 P1, 24 P0

## PTS810_SJM_250_SMTR_LFS
designator SW?
Tactile Switch SPST-NO Top Actuated Surface Mount; MF: C&K; MP: PTS810 SJM 250 SMTR LFS; Price: None; Package: None; Availability: Unavailable; Value: *; SnapEDA_Link: https://www.snapeda.com/parts/PTS810%20SJM%20250%20SMTR%20LFS/C%26K/view-part/522770/?ref=snap
footprint SW_PTS810_SJM_250_SMTR_LFS
pins: 1, 2, 3, 4

## RC0805JR-070RL
designator R?, comment 0R
Surface Mount Thick Film Resistor, RC Series, 125 mW, - 5%, 150 V, 0805 [2012 Metric]; Manufacturer: Yageo; Manufacturer Part Number: RC0805JR-070RL; Resistance: 0mR; Power Rating: 125mW; Voltage Rating: 150V; Temperature Coefficient: 200ppm/°C; Supplier 1: Digi-Key; RoHS: Yes; Category: Chip SMD Resistors; Stock 1: 7454053; Pricing 1: 1=0.10000, 10=0.03500, 25=0.02480, 50=0.01900, 100=0.01400, 250=0.01072, 500=0.00856, 1000=0.00631 (USD); Case/Package: 0805; Number of Pins: 2; Contact Plating: Tin,Matte; Case Code (Imperial): 0805; Case Code (Metric): 2012; Min Operating Temperature: -55°C; Max Operating Temperature: 155°C; Composition: Thick Film; Tolerance: 5%; Packaging: Tape and Reel; Voltage Rating (DC): 150V; Termination: SMD/SMT; Military Standard: Not; Length: 2mm; Height: 0.5mm; Width: 1.25mm; Depth: 1.25mm; Radiation Hardening: No; REACH SVHC: Unknown; Lead Free: Lead Free; ComponentLink1URL: https://datasheet.ciiva.com/7941/1738694-7941861.pdf?src-supplier=Element14; ComponentLink1Description: https://datasheet.ciiva.com/7941/1738694-7941861.pdf?src-supplier=Element14; ComponentLink2URL: https://datasheet.ciiva.com/11819/0900766b8106beab-11819430.pdf?src-supplier=RSComponents; ComponentLink2Description: https://datasheet.ciiva.com/11819/0900766b8106beab-11819430.pdf?src-supplier=RSComponents; ComponentLink3URL: https://datasheet.ciiva.com/7941/1738694-7941862.pdf?src-supplier=Element14; ComponentLink3Description: https://datasheet.ciiva.com/7941/1738694-7941862.pdf?src-supplier=Element14; ComponentLink4URL: https://datasheet.ciiva.com/7941/1738694-7941863.pdf?src-supplier=Element14; ComponentLink4Description: https://datasheet.ciiva.com/7941/1738694-7941863.pdf?src-supplier=Element14; ComponentLink5URL: https://datasheet.ciiva.com/15190/getdatasheetpartid-330685-15190028.pdf?src-supplier=Verical; ComponentLink5Description: https://datasheet.ciiva.com/15190/getdatasheetpartid-330685-15190028.pdf?src-supplier=Verical; Supplier Part Number 1: 311-0.0ARCT-ND
footprint R0805 Yageo
pins: 1, 2

## SMLP34RGB2W3
designator LED?  Supplier Part Number 1: SMLP34RGB2W3CT-ND
PICOLED-RGB LED, 5 mA, -40 to 85 degC, 4-Pin 1 x 1 x 0.25 mm SMD, RoHS, Tape and Reel; Manufacturer: ROHM Semiconductor; VR(RGB): 5 V; VF(Blue): 3.2 V Typ.; VF(Green): 3.3 V Typ.; IF(RGB): 5 mA; IR(RGB): 10 uA Max.; VF(Red): 2.2 V Typ.; ComponentLink1Description: Manufacturer URL; ComponentLink2Description: Datasheet; PartNumber: SMLP34RGB2W3; DatasheetVersion: Rev. G; Mounting Technology: Surface Mount; ComponentLink1URL: http://www.rohm.com/; Packing: Tape and Reel; RoHS: TRUE; Temperature Range: -40 to 85 degC; PackageReference: SMLP34; PackageDescription: 4-Pin SMD, Body 1 x 1 mm, Pitch 0.85 mm; ComponentLink2URL: http://rohmfs.rohm.com/en/products/databook/datasheet/opto/led/chip_multi/smlp34.pdf; Supplier 1: Digi-Key
footprint ROHM-SMLP34-4_V
pins: 1 A, 2 R, 3 B, 4 G

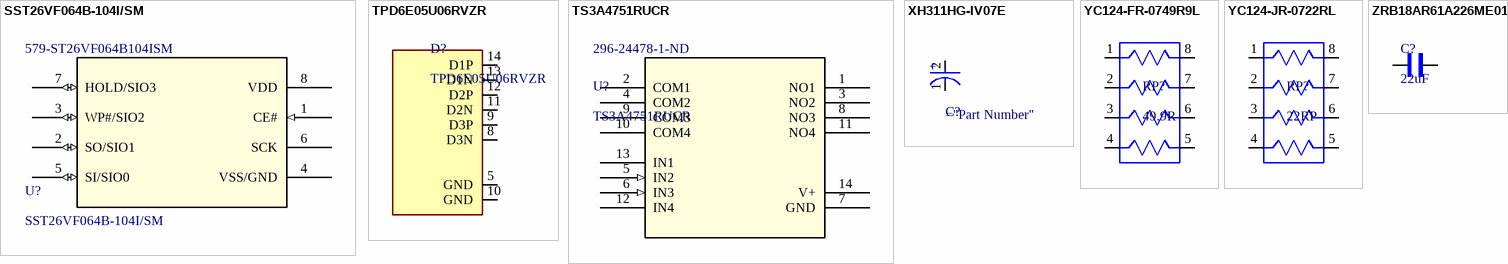
[diagram p2: symbols SST26VF064B-104I/SM to ZRB18AR61A226ME01L]

## SST26VF064B-104I/SM
designator U?  Supplier Part Number 1: 579-ST26VF064B104ISM
Quad SPI Memory; Flash Serial 3V 64Mbit 64M x 1Bit 8-Pin SOIJ; Vendor: Microchip; Built_By: EMA_Cory; SourceLibrary: Microchip_2020-09-08; Datasheet: https://ww1.microchip.com/downloads/en/DeviceDoc/SST26VF064B-SST26VF064BA-2.5V-3.0V-64-Mbit-Serial-Quad-IO-Flash-Memory-Data-Sheet-DS20005119J.pdf; Manufacturer_Part_Number: SST26VF064B-104I/SM; Copyright: Copyright (C) 2018 Accelerated Designs. All rights reserved; RefDes: RefDes; Type: DEV; Supplier 1: Mouser
footprint SST26VF064B-104V/SM
pins: 1 CE# (in), 2 SO/SIO1 (io), 3 WP#/SIO2 (io), 4 VSS/GND, 5 SI/SIO0 (io), 6 SCK, 7 HOLD/SIO3 (io), 8 VDD (power)

## TPD6E05U06RVZR
designator D?
TVS DIODE 5.5V 14V 14USON (ESD Protection for PHY); Manufacturer: Texas Instruments; Peak Pulse Current: 2.5A; Number of Bidirectional Channels: 6; Min Breakdown Voltage: 6V; Peak Pulse Power: 40W; Power Line Protection: Yes; Polarity: Bidirectional; Leakage Current: 10nA; Interface: LVDS,USB,Ethernet,HDMI,PCIe,SATA; Direction: Unidirectional; Supplier 1: Digi-Key; Manufacturer Part Number: TPD6E05U06RVZR; RoHS: Yes; Category: ESD and Circuit Protection ICs; Stock 1: 12287; Pricing 1: 1=0.80000, 10=0.66000, 100=0.47930, 500=0.38340, 1000=0.30885 (USD); Mount: Surface Mount; Number of Pins: 14; Min Operating Temperature: -40°C; Max Operating Temperature: 125°C; Packaging: Tape and Reel; Package Quantity: 3000; Reverse Standoff Voltage: 5.5V; Clamping Voltage: 14V; Number of Channels: 6; Breakdown Voltage: 6V; Termination: SMD/SMT; Max Power Dissipation: 40W; Working Voltage: 5.5V; Length: 3.6mm; Depth: 1.45mm; Radiation Hardening: No; Lead Free: Lead Free; ComponentLink1URL: https://datasheet.ciiva.com/29883/tpd6e05u06-29883847.pdf?src-supplier=Avnet; ComponentLink1Description: https://datasheet.ciiva.com/29883/tpd6e05u06-29883847.pdf?src-supplier=Avnet; ComponentLink2URL: https://datasheet.ciiva.com/26918/getdatasheetpartid-747210-26918045.pdf?src-supplier=Verical; ComponentLink2Description: https://datasheet.ciiva.com/26918/getdatasheetpartid-747210-26918045.pdf?src-supplier=Verical; Supplier Part Number 1: 296-39349-1-ND
footprint SON50P135X350X55-14N
pins: 5 GND (power), 8 D3N (io), 9 D3P (io), 10 GND (power), 11 D2N (io), 12 D2P (io), 13 D1N (io), 14 D1P (io)

## TS3A4751RUCR
designator U?  Supplier Part Number 1: 296-24478-1-ND
https://www.ti.com/product/TS3A4751?HQS=TI-null-null-octopart-df-pf-null-wwe; Vendor: Texas Instruments; PACKAGE_DESIGNATOR: RUC; PIN_COUNT: 14; FAMILY_NAME: ANALOG SWITCH OR MULTIPLEXER (less than or equal to 5V); INDUSTRY_STD_PKG_TYPE: QFN; Manufacturer_Part_Number: TS3A4751RUCR; GENERIC_PART_NUMBER: TS3A4751; Datasheet_URL: http://www.ti.com/lit/gpn/TS3A4751; Manufacturer: Texas Instruments; Copyright: Copyright (C) 2018 Accelerated Designs. All rights reserved; RefDes: RefDes; Type: DEV; Supplier 1: Digi-Key
footprint TS3A4751RUCR (Texas Instruments IC Quad Switch)
pins: 1 NO1, 2 COM1, 3 NO2, 4 COM2, 5 IN2 (in), 6 IN3 (in), 7 GND (power), 8 NO3, 9 COM3, 10 COM4, 11 NO4, 12 IN4, 13 IN1, 14 V+ (power)

## XH311HG-IV07E
designator C?, comment 20mF 3.3V  (value not drawn)
3.3V Coin Cap
footprint Seiko_XH311HG-IV07E_0
pins: 1 C, 2 A
text: +

## YC124-FR-0749R9L
designator RP?, comment 49.9R
Res Thick Film Array 49.9 Ohm 1% 200ppm/C ISOL Molded 8-Pin 0804(4 X 0402) Convex SMD Paper T/R; Manufacturer: Yageo; Manufacturer Part Number: YC124-FR-0749R9L; Number of Terminals/Pins: 8; Temperature Coefficient: 200ppm/°C; Number of Resistors: 4; Circuit Type: Isolated; Power Per Element: 62.5mW; Working Voltage: 50V; Supplier 1: Digi-Key; RoHS: Yes; Category: Resistor Arrays; Stock 1: 76594; Pricing 1: 1=0.35000, 10=0.29700, 25=0.21560, 50=0.15640, 100=0.11590, 250=0.08896, 500=0.07010, 1000=0.04853, 5000=0.04044 (USD); Mount: Surface Mount; Case/Package: 0402; Number of Pins: 8; Min Operating Temperature: -55°C; Max Operating Temperature: 155°C; Resistance: 49.9R; Termination: Convex; Power Dissipation: 62.5mW; Number of Elements: 4; Tolerance: 1%; Package Quantity: 1; Packaging: Tape and Reel; Number of Circuits: 4; Length: 0.079inch; Width: 0.039inch; Height: 0.022inch; Terminal Pitch: 0.5mm; Depth: 1mm; Radiation Hardening: No; Military Standard: Not; Lead Free: Lead Free; ComponentLink1URL: https://datasheet.ciiva.com/2689/pyu-yc-tc124-51-rohs-l-3-2689456.pdf?src-supplier=Digi-Key; ComponentLink1Description: https://datasheet.ciiva.com/2689/pyu-yc-tc124-51-rohs-l-3-2689456.pdf?src-supplier=Digi-Key; ComponentLink2URL: https://datasheet.ciiva.com/28381/pyu-yc-tc124-51-rohs-l-2-28381383.pdf?src-supplier=Avnet+Europe; ComponentLink2Description: https://datasheet.ciiva.com/28381/pyu-yc-tc124-51-rohs-l-2-28381383.pdf?src-supplier=Avnet+Europe; ComponentLink3URL: https://datasheet.ciiva.com/16961/pyu-yc-tc124-51-rohs-l-2-16961496.pdf?src-supplier=Avnet+Europe; ComponentLink3Description: https://datasheet.ciiva.com/16961/pyu-yc-tc124-51-rohs-l-2-16961496.pdf?src-supplier=Avnet+Europe; ComponentLink4URL: https://datasheet.ciiva.com/17470/pyu-yc-tc124-51-rohs-l-3-17470984.pdf?src-supplier=Future+Electronics; ComponentLink4Description: https://datasheet.ciiva.com/17470/pyu-yc-tc124-51-rohs-l-3-17470984.pdf?src-supplier=Future+Electronics; ComponentLink5URL: https://datasheet.ciiva.com/2689/pyu-yc-tc124-51-rohs-l-3-2689454.pdf?src-supplier=Digi-Key; ComponentLink5Description: https://datasheet.ciiva.com/2689/pyu-yc-tc124-51-rohs-l-3-2689454.pdf?src-supplier=Digi-Key; ComponentLink6URL: https://datasheet.ciiva.com/2689/pyu-yc-tc124-51-rohs-l-3-2689455.pdf?src-supplier=Digi-Key; ComponentLink6Description: https://datasheet.ciiva.com/2689/pyu-yc-tc124-51-rohs-l-3-2689455.pdf?src-supplier=Digi-Key; ComponentLink7URL: https://datasheet.ciiva.com/8311/pyu-yc-tc124-51-rohs-l-2-8311759.pdf?src-supplier=Avnet; ComponentLink7Description: https://datasheet.ciiva.com/8311/pyu-yc-tc124-51-rohs-l-2-8311759.pdf?src-supplier=Avnet; Supplier Part Number 1: YC124F-49.9CT-ND
footprint RESCAXS50P200X100X55-8N
pins: 1, 2, 3, 4, 5, 6, 7, 8